# EAGLE library part USB3075-30-A (library con-GlobalConnectorTechnology)
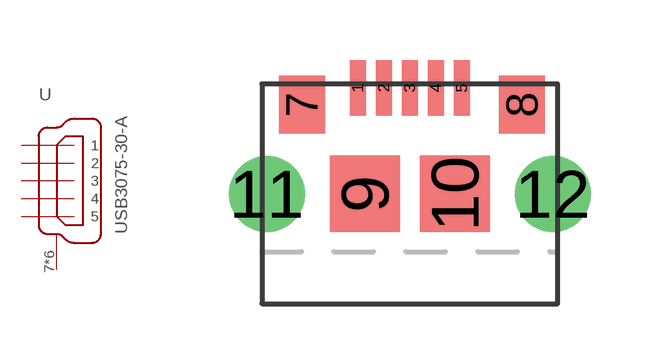
[diagram p0: symbol with the pads of USB_MICROB_SMT; footprint USB_MICROB_SMT]

Designator prefix -

## USB3075-30-A  [USB_MICROB_SMT]
1  1  pas
2  2  pas
3  3  pas
4  4  pas
5  5  pas
7  S
8  S
9  S
10  S
11  S
12  S

## Footprint USB_MICROB_SMT (pad centres in mm)
smd 0.4 x 1.4: 1 -1.3,2.65; 2 -0.65,2.65; 3 0,2.65; 4 0.65,2.65; 5 1.3,2.65
smd 1.15 x 1.45: 7 -2.7,2.23; 8 2.8,2.23
smd 1.75 x 1.9: 9 -1.125,0; 10 1.125,0
drill 1.25 pad 1.9: 11 -3.575,0; 12 3.575,0